# Altium footprint library XTEND.PcbLib: 1 footprints
Each footprint in its own frame and in the unit in brackets; x right, y up, seen from the top. Pads: shape width x height; smd on the part's side, far side on the other; paste and mask are expansions set on the pad; w line width, h text height; cw(c..) or ccw(c..) is an arc to the next point about the centre after c.
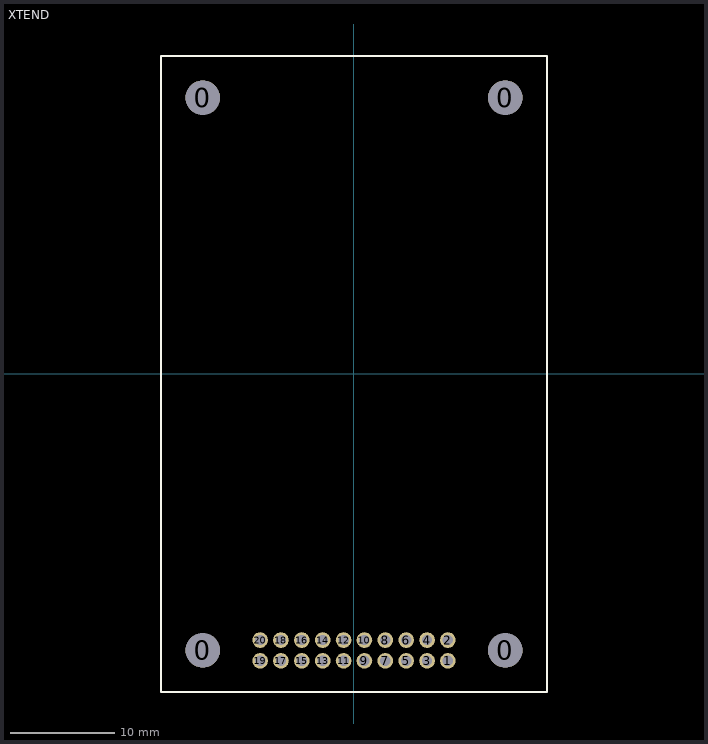
[diagram p0: the footprint, top view; thin cyan lines are the x and y axes]

## XTEND [mm]
pads (24):
  round 3.3 hole 3.3: 0(-14.5,-26.5) 0(-14.5,26.5) 0(14.5,-26.5) 0(14.5,26.5)
  round 1.5 hole 1: 1(9,-27.5) 2(9,-25.5) 3(7,-27.5) 4(7,-25.5) 5(5,-27.5) 6(5,-25.5) 7(3,-27.5) 8(3,-25.5) 9(1,-27.5) 10(1,-25.5) 11(-1,-27.5) 12(-1,-25.5) 13(-3,-27.5) 14(-3,-25.5) 15(-5,-27.5) 16(-5,-25.5) 17(-7,-27.5) 18(-7,-25.5) 19(-9,-27.5) 20(-9,-25.5)
TopOverlay:
  lines w0.2: -18.49,-30.5 -18.49,30.5 18.49,30.5 18.49,-30.5 -18.49,-30.5
3D body: height 5.17, standoff -2.5, extent -18.288,-30.632 18.592,31.368